# Altium schematic symbol library Tontek.SchLib: 1 symbol
Pins are listed as number, name and electrical type; pins without a type are passive.

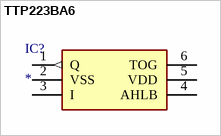
[diagram p0: symbol TTP223BA6]

## TTP223BA6
designator IC?
Integrated Circuit; Manufacturer_Name: TONTEK; Manufacturer_Part_Number: TTP223BA6; Datasheet Link: https://www.tontek.com.tw/uploads/product/243/TTP223-BA6_V2.1_EN.pdf; Height: 1.26mm
footprint SOT95P285X126-6N
pins: 1 Q (out), 2 VSS, 3 I, 4 AHLB, 5 VDD, 6 TOG